# Altium footprint library FUSE 04450001N.PcbLib: 1 footprints
Each footprint in its own frame and in the unit in brackets; x right, y up, seen from the top. Pads: shape width x height; smd on the part's side, far side on the other; paste and mask are expansions set on the pad; w line width, h text height; cw(c..) or ccw(c..) is an arc to the next point about the centre after c.
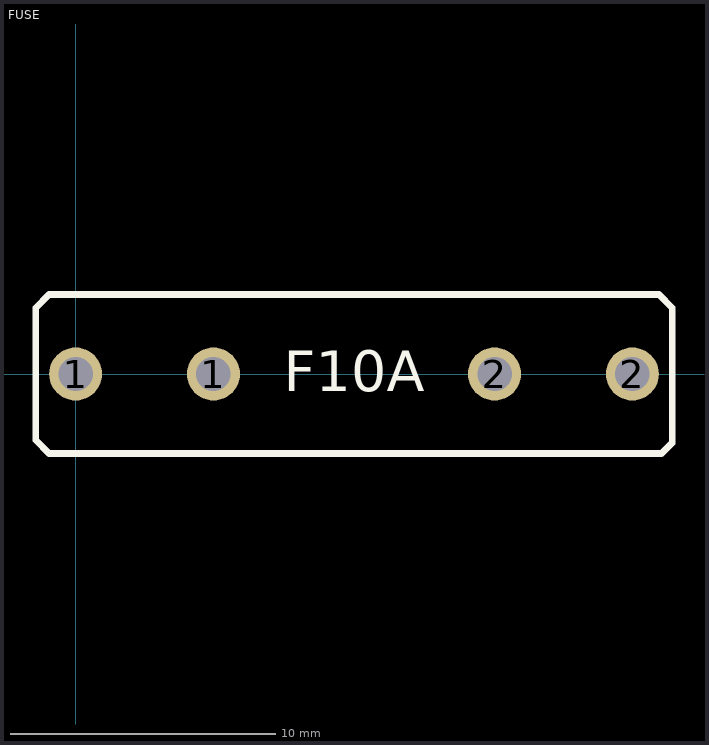
[diagram p0: the footprint, top view; thin cyan lines are the x and y axes]

## FUSE [mm]
pads (4):
  round 2 hole 1.3: 1(0,0) 1(5.2,0) 2(15.8,0) 2(21,0)
Top Overlay:
  lines w0.254: -1.5,-2.5 -1.5,2.5 -1,3 22,3 22.5,2.5 22.5,-2.6 22.1,-3 -1,-3 -1.5,-2.5
  text "F10A" at 7.854,-0.646 h1.52
3D body "Fuse Holder.STEP": height 8.35, standoff -3.4, extent -0.4,-3 21.2,2.798